# Altium schematic symbol library PIC16F74-I_P.SchLib: 1 symbol
Pins are listed as number, name and electrical type; pins without a type are passive.

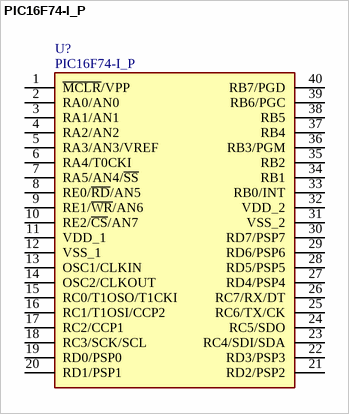
[diagram p0: symbol PIC16F74-I_P]

## PIC16F74-I_P
designator U?
8 bit CMOS Flash Microcontrollers; Manufacturer_Name: Microchip; Manufacturer_Part_Number: PIC16F74-I/P; Geometry.Height: 4.83mm; Mouser Part Number: 579-PIC16F74IP; Mouser Price/Stock: https://www.mouser.co.uk/ProductDetail/Microchip-Technology/PIC16F74-I-P?qs=1zyQUV6YKYwubAM1UFlxeQ%3D%3D; Datasheet Link: http://componentsearchengine.com/Datasheets/1/PIC16F74-I_P.pdf
footprint DIP1550W56P254L5219H483Q40N
pins: 1 ~{MCLR}/VPP, 2 RA0/AN0, 3 RA1/AN1, 4 RA2/AN2, 5 RA3/AN3/VREF, 6 RA4/T0CKI, 7 RA5/AN4/~{SS}, 8 RE0/~{RD}/AN5, 9 RE1/~{WR}/AN6, 10 RE2/~{CS}/AN7, 11 VDD_1, 12 VSS_1, 13 OSC1/CLKIN, 14 OSC2/CLKOUT, 15 RC0/T1OSO/T1CKI, 16 RC1/T1OSI/CCP2, 17 RC2/CCP1, 18 RC3/SCK/SCL, 19 RD0/PSP0, 20 RD1/PSP1, 21 RD2/PSP2, 22 RD3/PSP3, 23 RC4/SDI/SDA, 24 RC5/SDO, 25 RC6/TX/CK, 26 RC7/RX/DT, 27 RD4/PSP4, 28 RD5/PSP5, 29 RD6/PSP6, 30 RD7/PSP7, 31 VSS_2, 32 VDD_2, 33 RB0/INT, 34 RB1, 35 RB2, 36 RB3/PGM, 37 RB4, 38 RB5, 39 RB6/PGC, 40 RB7/PGD